# EAGLE library part FLIP-PINS-8 (library Flip-Pins_Eagle_Symbols_and_Footprints_2016_09_12)
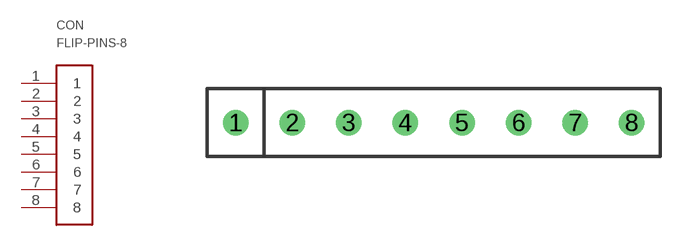
[diagram p0: symbol with the pads of FLIP-PINS-08; footprint FLIP-PINS-08]

Designator prefix CON

## FLIP-PINS-8  [FLIP-PINS-08]
1  1  pas
2  2  pas
3  3  pas
4  4  pas
5  5  pas
6  6  pas
7  7  pas
8  8  pas

## Footprint FLIP-PINS-08 (pad centres in mm)
drill 0.635 pad 1.016: 1 0,0; 2 2.54,0; 3 5.08,0; 4 7.62,0; 5 10.16,0; 6 12.7,0; 7 15.24,0; 8 17.78,0